# Altium schematic symbol library 74LVC1G3157GW,125.Schlib: 1 symbol
Pins are listed as number, name and electrical type; pins without a type are passive.

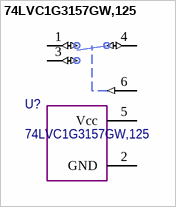
[diagram p0: symbol 74LVC1G3157GW,125]

## 74LVC1G3157GW,125
designator U?
pins: 1 Y1 (io), 2 GND (power), 3 Y0 (io), 4 Z (io), 5 Vcc (power), 6 S (in)